# EAGLE library part 52435-2871 (library 52435-2871)
Molex 52435 Series 0.5mm Pitch 28 Way 1 Row Right Angle FPC Connector, Gold Plated Contacts Source: Datasheet <https://www.molex.com/pdm_docs/sd/524352871_sd.pdf>
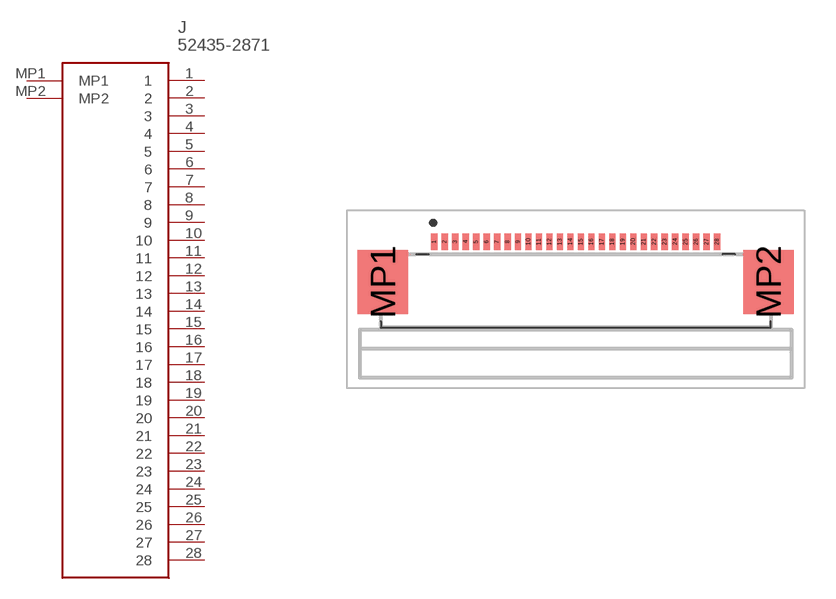
[diagram p0: symbol with the pads of 524352871; footprint 524352871]

Designator prefix J

## 52435-2871 (Description: Molex 52435 Series 0.5mm Pitch 28 Way 1 Row Right Angle FPC Connector, Gold Plated Contacts; Height: 2mm; Manufacturer_Name: Molex; Manufacturer_Part_Number: 52435-2871; Mouser_Part_Number: 538-52435-2871; Mouser_Price-Stock: https://www.mouser.co.uk/ProductDetail/Molex/52435-2871?qs=nDwhpid8gJaPoR8mew6yQg%3D%3D)  [524352871]
1  1
2  2
3  3
4  4
5  5
6  6
7  7
8  8
9  9
10  10
11  11
12  12
13  13
14  14
15  15
16  16
17  17
18  18
19  19
20  20
21  21
22  22
23  23
24  24
25  25
26  26
27  27
28  28
MP1  MP1
MP2  MP2

## Footprint 524352871 (pad centres in mm)
52435-2871-2
smd 0.3 x 0.8: 1 -6.75,2.75; 2 -6.25,2.75; 3 -5.75,2.75; 4 -5.25,2.75; 5 -4.75,2.75; 6 -4.25,2.75; 7 -3.75,2.75; 8 -3.25,2.75; 9 -2.75,2.75; 10 -2.25,2.75; 11 -1.75,2.75; 12 -1.25,2.75; 13 -0.75,2.75; 14 -0.25,2.75; 15 0.25,2.75; 16 0.75,2.75; 17 1.25,2.75; 18 1.75,2.75; 19 2.25,2.75; 20 2.75,2.75; 21 3.25,2.75; 22 3.75,2.75; 23 4.25,2.75; 24 4.75,2.75; 25 5.25,2.75; 26 5.75,2.75; 27 6.25,2.75; 28 6.75,2.75
smd 2.4 x 3.05: MP1 -9.2,0.825; MP2 9.2,0.825